# Altium footprint library A6.PcbLib: 1 footprints
Each footprint in its own frame and in the unit in brackets; x right, y up, seen from the top. Pads: shape width x height; smd on the part's side, far side on the other; paste and mask are expansions set on the pad; w line width, h text height; cw(c..) or ccw(c..) is an arc to the next point about the centre after c.
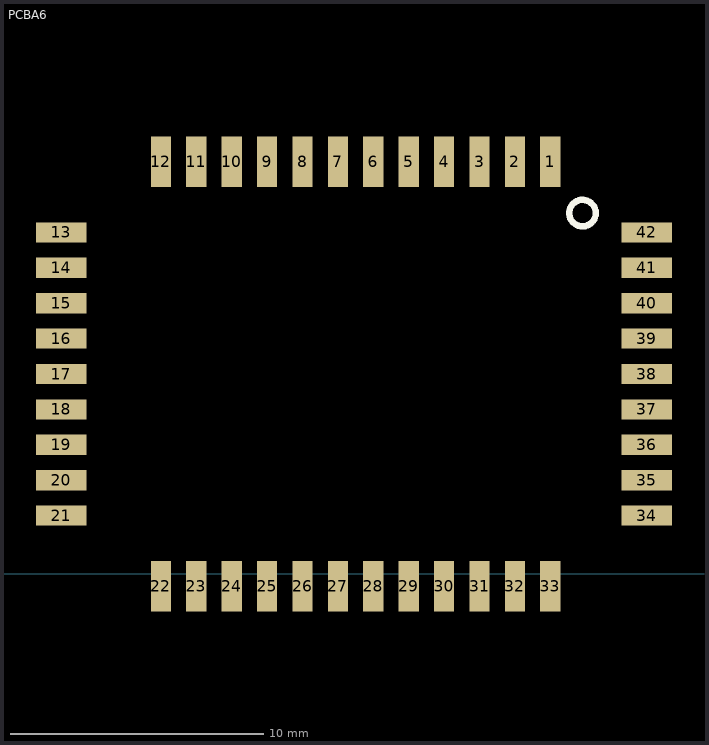
[diagram p0: the footprint, top view; thin cyan lines are the x and y axes]

## PCBA6 [mm]
pads (42):
  rect 0.8x2 smd: 1(24.892,16.256) 2(23.495,16.256) 3(22.098,16.256) 4(20.701,16.256) 5(19.304,16.256) 6(17.907,16.256) 7(16.51,16.256) 8(15.113,16.256) 9(13.716,16.256) 10(12.319,16.256) 11(10.922,16.256) 12(9.525,16.256) 22(9.525,-0.508) 23(10.922,-0.508) 24(12.319,-0.508) 25(13.716,-0.508) 26(15.113,-0.508) 27(16.51,-0.508) 28(17.907,-0.508) 29(19.304,-0.508) 30(20.701,-0.508) 31(22.098,-0.508) 32(23.495,-0.508) 33(24.892,-0.508)
  rect 2x0.8 smd: 13(5.588,13.462) 14(5.588,12.065) 15(5.588,10.668) 16(5.588,9.271) 17(5.588,7.874) 18(5.588,6.477) 19(5.588,5.08) 20(5.588,3.683) 21(5.588,2.286) 34(28.702,2.286) 35(28.702,3.683) 36(28.702,5.08) 37(28.702,6.477) 38(28.702,7.874) 39(28.702,9.271) 40(28.702,10.668) 41(28.702,12.065) 42(28.702,13.462)
Top Overlay:
  circle w0.254: c26.162,14.224 r0.524